# Altium schematic symbol library dingo_schemlib.SchLib: 10 symbols
Pins are listed as number, name and electrical type; pins without a type are passive.

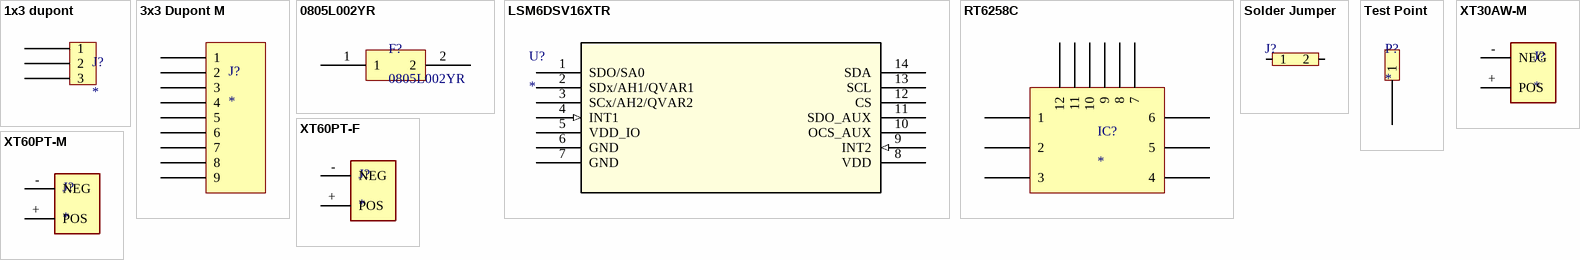
[diagram p0: symbols 1x3 dupont to XT60PT-M]

## 1x3 dupont
designator J?
Connector; Manufacturer_Name: SAMTEC; Manufacturer_Part_Number: TSW-106-07-L-T; Datasheet Link: http://suddendocs.samtec.com/catalog_english/tsw_th.pdf; Height: 8.38mm; Mouser Part Number: 200-TSW10607LT; Mouser Price/Stock: https://www.mouser.co.uk/ProductDetail/Samtec/TSW-106-07-L-T?qs=rU5fayqh%252BE39iyDwG6o8Cg%3D%3D; Arrow Part Number: TSW-106-07-L-T; Arrow Price/Stock: https://www.arrow.com/en/products/tsw-106-07-l-t/samtec
footprint 1x3 Dupont
pins: 1, 2, 3

## 3x3 Dupont M
designator J?
Connector; Manufacturer_Name: SAMTEC; Manufacturer_Part_Number: TSW-106-07-L-T; Datasheet Link: http://suddendocs.samtec.com/catalog_english/tsw_th.pdf; Height: 8.38mm; Mouser Part Number: 200-TSW10607LT; Mouser Price/Stock: https://www.mouser.co.uk/ProductDetail/Samtec/TSW-106-07-L-T?qs=rU5fayqh%252BE39iyDwG6o8Cg%3D%3D; Arrow Part Number: TSW-106-07-L-T; Arrow Price/Stock: https://www.arrow.com/en/products/tsw-106-07-l-t/samtec
footprint 3x3 Dupont M
pins: 1, 2, 3, 4, 5, 6, 7, 8, 9

## 0805L002YR
designator F?
Fuse
footprint 0805L002YR (Fuse)
pins: 1, 2

## LSM6DSV16XTR
designator U?
No Description Available; Mfr_Name: STMicroelectronics; RefDes: RefDes; Type: Type
footprint LGA14L_LSM6_STM-L
pins: 1 SDO/SA0, 2 SDx/AH1/QVAR1, 3 SCx/AH2/QVAR2, 4 INT1 (in), 5 VDD_IO (power), 6 GND (power), 7 GND (power), 8 VDD (power), 9 INT2 (in), 10 OCS_AUX, 11 SDO_AUX, 12 CS, 13 SCL, 14 SDA

## RT6258C
designator IC?
5V 8A REG with LDO
footprint RT6258C
pins: 1, 2, 3, 4, 5, 6, 7, 8, 9, 10, 11, 12

## Solder Jumper
designator J?
footprint SOLDER JUMPER
pins: 1, 2

## Test Point
designator P?
footprint Test Point
pins: 1

## XT30AW-M
designator J?
XT30 pins
footprint XT30AW-M (XT30 male)
pins: + POS, - NEG

## XT60PT-F
designator J?
Female SMT XT60 Connector
footprint XT60PT-F
pins: + POS, - NEG

## XT60PT-M
designator J?
Male SMT XT60 Connector
footprint XT60PT-M
pins: + POS, - NEG